# EAGLE library part BH76330FVM (library custom)
Analog Video Switch 3:1 Mux Amplifier
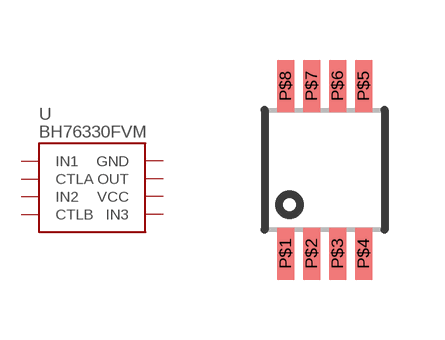
[diagram p53: symbol with the pads of 8-MSOP; footprint 8-MSOP]

Designator prefix U

## BH76330FVM  [8-MSOP]
P$1  IN1
P$2  CTLA
P$3  IN2
P$4  CTLB
P$5  IN3
P$6  VCC
P$7  OUT
P$8  GND

## Footprint 8-MSOP (pad centres in mm)
smd 0.425 x 1.3: P$1 -0.975,-2.1; P$2 -0.325,-2.1; P$3 0.325,-2.1; P$4 0.975,-2.1; P$5 0.975,2.1; P$6 0.325,2.1; P$7 -0.325,2.1; P$8 -0.975,2.1